# Altium schematic symbol library conn_header_1.27mm_st_smd.SchLib: 118 symbols
Pins are listed as number, name and electrical type; pins without a type are passive.

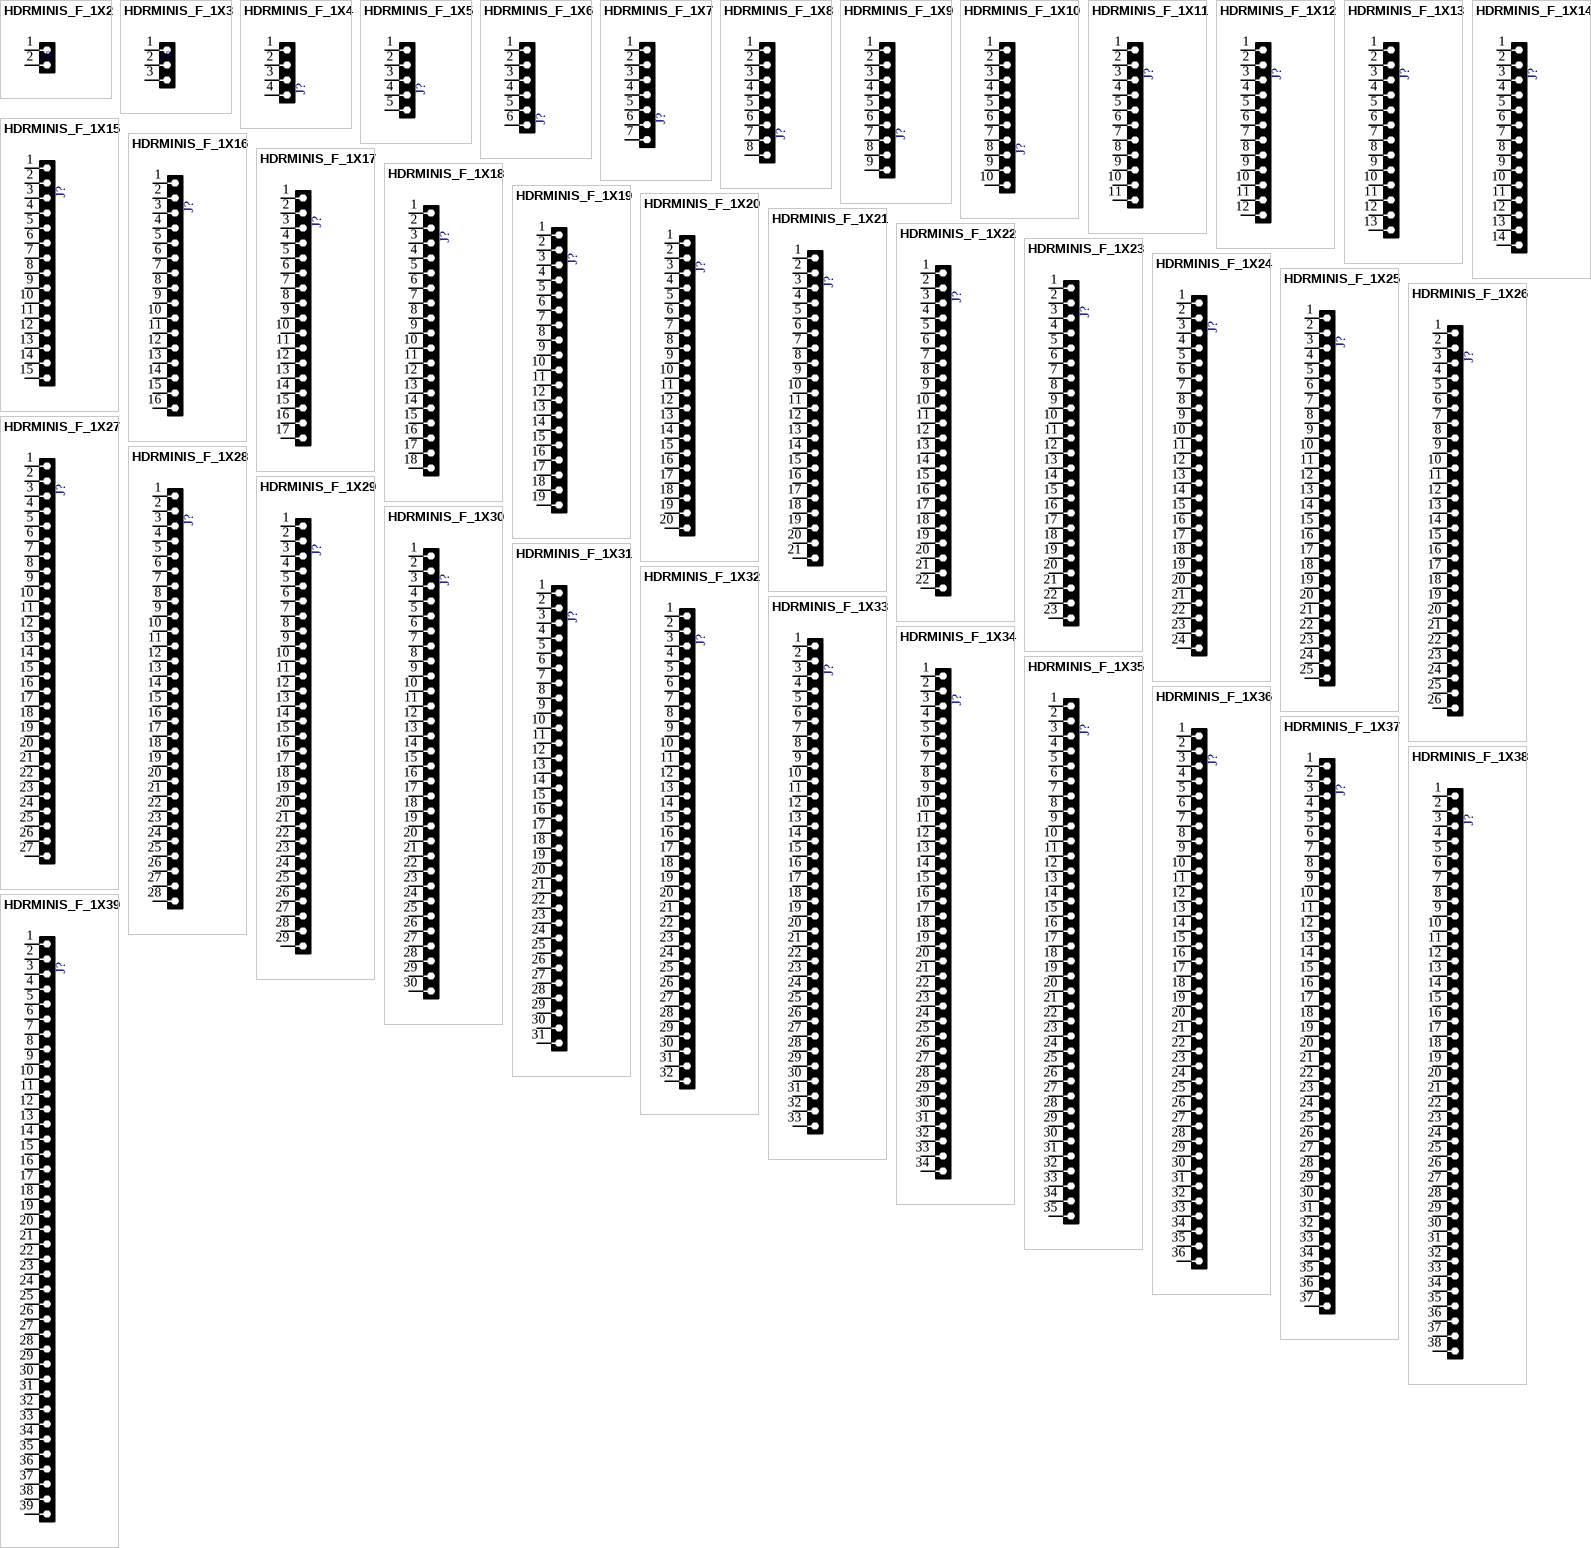
[diagram p0: symbols HDRMINIS_F_1X2 to HDRMINIS_F_1X39]

## HDRMINIS_F_1X2
designator J?, comment HDRMINI_2  (value not drawn)
CONN, HEADER, Female, pitch: 1.27mm, 2POS; VALUE: HDRMINI_2
footprint HDRMINIS_F_1X2 (mini header (50mil pitch))
pins: 1, 2

## HDRMINIS_F_1X3
designator J?, comment HDRMINI_3  (value not drawn)
CONN, HEADER, Female, pitch: 1.27mm, 3POS; VALUE: HDRMINI_3
footprint HDRMINIS_F_1X3 (mini header (50mil pitch))
pins: 1, 2, 3

## HDRMINIS_F_1X4
designator J?, comment HDR1X4  (value not drawn)
CONN, HEADER, Female, pitch: 1.27mm, 4POS; VALUE: HDRMINI_4
footprint HDRMINIS_F_1X4 (mini header (50mil pitch))
pins: 1, 2, 3, 4

## HDRMINIS_F_1X5
designator J?, comment HDR1X5  (value not drawn)
CONN, HEADER, Female, pitch: 1.27mm, 5POS; VALUE: HDRMINI_5
footprint HDRMINIS_F_1X5 (mini header (50mil pitch))
pins: 1, 2, 3, 4, 5

## HDRMINIS_F_1X6
designator J?, comment HDR1X6  (value not drawn)
CONN, HEADER, Female, pitch: 1.27mm, 6POS; VALUE: HDRMINI_6
footprint HDRMINIS_F_1X6 (mini header (50mil pitch))
pins: 1, 2, 3, 4, 5, 6

## HDRMINIS_F_1X7
designator J?, comment HDR1X7  (value not drawn)
CONN, HEADER, Female, pitch: 1.27mm, 7POS; VALUE: HDRMINI_7
footprint HDRMINIS_F_1X7 (mini header (50mil pitch))
pins: 1, 2, 3, 4, 5, 6, 7

## HDRMINIS_F_1X8
designator J?, comment HDR1X8  (value not drawn)
CONN, HEADER, Female, pitch: 1.27mm, 8POS; VALUE: HDRMINI_8
footprint HDRMINIS_F_1X8 (mini header (50mil pitch))
pins: 1, 2, 3, 4, 5, 6, 7, 8

## HDRMINIS_F_1X9
designator J?, comment HDR1X9  (value not drawn)
CONN, HEADER, Female, pitch: 1.27mm, 9POS; VALUE: HDRMINI_9
footprint HDRMINIS_F_1X9 (mini header (50mil pitch))
pins: 1, 2, 3, 4, 5, 6, 7, 8, 9

## HDRMINIS_F_1X10
designator J?, comment HDR1X10  (value not drawn)
CONN, HEADER, Female, pitch: 1.27mm; VALUE: HDRMINI_10
footprint HDRMINIS_F_1X10 (mini header (50mil pitch))
pins: 1, 2, 3, 4, 5, 6, 7, 8, 9, 10

## HDRMINIS_F_1X11
designator J?, comment HDR1X10  (value not drawn)
CONN, HEADER, Female, pitch: 1.27mm; VALUE: HDRMINI_10
footprint HDRMINIS_F_1X11 (mini header (50mil pitch))
pins: 1, 2, 3, 4, 5, 6, 7, 8, 9, 10, 11

## HDRMINIS_F_1X12
designator J?, comment HDR1X10  (value not drawn)
CONN, HEADER, Female, pitch: 1.27mm; VALUE: HDRMINI_10
footprint HDRMINIS_F_1X12 (mini header (50mil pitch))
pins: 1, 2, 3, 4, 5, 6, 7, 8, 9, 10, 11, 12

## HDRMINIS_F_1X13
designator J?, comment HDR1X10  (value not drawn)
CONN, HEADER, Female, pitch: 1.27mm; VALUE: HDRMINI_10
footprint HDRMINIS_F_1X13 (mini header (50mil pitch))
pins: 1, 2, 3, 4, 5, 6, 7, 8, 9, 10, 11, 12, 13

## HDRMINIS_F_1X14
designator J?, comment HDR1X10  (value not drawn)
CONN, HEADER, Female, pitch: 1.27mm; VALUE: HDRMINI_10
footprint HDRMINIS_F_1X14 (mini header (50mil pitch))
pins: 1, 2, 3, 4, 5, 6, 7, 8, 9, 10, 11, 12, 13, 14

## HDRMINIS_F_1X15
designator J?, comment HDR1X10  (value not drawn)
CONN, HEADER, Female, pitch: 1.27mm; VALUE: HDRMINI_10
footprint HDRMINIS_F_1X15 (mini header (50mil pitch))
pins: 1, 2, 3, 4, 5, 6, 7, 8, 9, 10, 11, 12, 13, 14, 15

## HDRMINIS_F_1X16
designator J?, comment HDR1X10  (value not drawn)
CONN, HEADER, Female, pitch: 1.27mm; VALUE: HDRMINI_10
footprint HDRMINIS_F_1X16 (mini header (50mil pitch))
pins: 1, 2, 3, 4, 5, 6, 7, 8, 9, 10, 11, 12, 13, 14, 15, 16

## HDRMINIS_F_1X17
designator J?, comment HDR1X10  (value not drawn)
CONN, HEADER, Female, pitch: 1.27mm; VALUE: HDRMINI_10
footprint HDRMINIS_F_1X17 (mini header (50mil pitch))
pins: 1, 2, 3, 4, 5, 6, 7, 8, 9, 10, 11, 12, 13, 14, 15, 16, 17

## HDRMINIS_F_1X18
designator J?, comment HDR1X10  (value not drawn)
CONN, HEADER, Female, pitch: 1.27mm; VALUE: HDRMINI_10
footprint HDRMINIS_F_1X18 (mini header (50mil pitch))
pins: 1, 2, 3, 4, 5, 6, 7, 8, 9, 10, 11, 12, 13, 14, 15, 16, 17, 18

## HDRMINIS_F_1X19
designator J?, comment HDR1X10  (value not drawn)
CONN, HEADER, Female, pitch: 1.27mm; VALUE: HDRMINI_10
footprint HDRMINIS_F_1X19 (mini header (50mil pitch))
pins: 1, 2, 3, 4, 5, 6, 7, 8, 9, 10, 11, 12, 13, 14, 15, 16, 17, 18, 19

## HDRMINIS_F_1X20
designator J?, comment HDR1X10  (value not drawn)
CONN, HEADER, Female, pitch: 1.27mm; VALUE: HDRMINI_10
footprint HDRMINIS_F_1X20 (mini header (50mil pitch))
pins: 1, 2, 3, 4, 5, 6, 7, 8, 9, 10, 11, 12, 13, 14, 15, 16, 17, 18, 19, 20

## HDRMINIS_F_1X21
designator J?, comment HDR1X10  (value not drawn)
CONN, HEADER, Female, pitch: 1.27mm; VALUE: HDRMINI_10
footprint HDRMINIS_F_1X21 (mini header (50mil pitch))
pins: 1, 2, 3, 4, 5, 6, 7, 8, 9, 10, 11, 12, 13, 14, 15, 16, 17, 18, 19, 20, 21

## HDRMINIS_F_1X22
designator J?, comment HDR1X10  (value not drawn)
CONN, HEADER, Female, pitch: 1.27mm; VALUE: HDRMINI_10
footprint HDRMINIS_F_1X22 (mini header (50mil pitch))
pins: 1, 2, 3, 4, 5, 6, 7, 8, 9, 10, 11, 12, 13, 14, 15, 16, 17, 18, 19, 20, 21, 22

## HDRMINIS_F_1X23
designator J?, comment HDR1X10  (value not drawn)
CONN, HEADER, Female, pitch: 1.27mm; VALUE: HDRMINI_10
footprint HDRMINIS_F_1X23 (mini header (50mil pitch))
pins: 1, 2, 3, 4, 5, 6, 7, 8, 9, 10, 11, 12, 13, 14, 15, 16, 17, 18, 19, 20, 21, 22, 23

## HDRMINIS_F_1X24
designator J?, comment HDR1X10  (value not drawn)
CONN, HEADER, Female, pitch: 1.27mm; VALUE: HDRMINI_10
footprint HDRMINIS_F_1X24 (mini header (50mil pitch))
pins: 1, 2, 3, 4, 5, 6, 7, 8, 9, 10, 11, 12, 13, 14, 15, 16, 17, 18, 19, 20, 21, 22, 23, 24

## HDRMINIS_F_1X25
designator J?, comment HDR1X10  (value not drawn)
CONN, HEADER, Female, pitch: 1.27mm; VALUE: HDRMINI_10
footprint HDRMINIS_F_1X25 (mini header (50mil pitch))
pins: 1, 2, 3, 4, 5, 6, 7, 8, 9, 10, 11, 12, 13, 14, 15, 16, 17, 18, 19, 20, 21, 22, 23, 24, 25

## HDRMINIS_F_1X26
designator J?, comment HDR1X10  (value not drawn)
CONN, HEADER, Female, pitch: 1.27mm; VALUE: HDRMINI_10
footprint HDRMINIS_F_1X26 (mini header (50mil pitch))
pins: 1, 2, 3, 4, 5, 6, 7, 8, 9, 10, 11, 12, 13, 14, 15, 16, 17, 18, 19, 20, 21, 22, 23, 24, 25, 26

## HDRMINIS_F_1X27
designator J?, comment HDR1X10  (value not drawn)
CONN, HEADER, Female, pitch: 1.27mm; VALUE: HDRMINI_10
footprint HDRMINIS_F_1X27 (mini header (50mil pitch))
pins: 1, 2, 3, 4, 5, 6, 7, 8, 9, 10, 11, 12, 13, 14, 15, 16, 17, 18, 19, 20, 21, 22, 23, 24, 25, 26, 27

## HDRMINIS_F_1X28
designator J?, comment HDR1X10  (value not drawn)
CONN, HEADER, Female, pitch: 1.27mm; VALUE: HDRMINI_10
footprint HDRMINIS_F_1X28 (mini header (50mil pitch))
pins: 1, 2, 3, 4, 5, 6, 7, 8, 9, 10, 11, 12, 13, 14, 15, 16, 17, 18, 19, 20, 21, 22, 23, 24, 25, 26, 27, 28

## HDRMINIS_F_1X29
designator J?, comment HDR1X10  (value not drawn)
CONN, HEADER, Female, pitch: 1.27mm; VALUE: HDRMINI_10
footprint HDRMINIS_F_1X29 (mini header (50mil pitch))
pins: 1, 2, 3, 4, 5, 6, 7, 8, 9, 10, 11, 12, 13, 14, 15, 16, 17, 18, 19, 20, 21, 22, 23, 24, 25, 26, 27, 28, 29

## HDRMINIS_F_1X30
designator J?, comment HDR1X10  (value not drawn)
CONN, HEADER, Female, pitch: 1.27mm; VALUE: HDRMINI_10
footprint HDRMINIS_F_1X30 (mini header (50mil pitch))
pins: 1, 2, 3, 4, 5, 6, 7, 8, 9, 10, 11, 12, 13, 14, 15, 16, 17, 18, 19, 20, 21, 22, 23, 24, 25, 26, 27, 28, 29, 30

## HDRMINIS_F_1X31
designator J?, comment HDR1X10  (value not drawn)
CONN, HEADER, Female, pitch: 1.27mm; VALUE: HDRMINI_10
footprint HDRMINIS_F_1X31 (mini header (50mil pitch))
pins: 1, 2, 3, 4, 5, 6, 7, 8, 9, 10, 11, 12, 13, 14, 15, 16, 17, 18, 19, 20, 21, 22, 23, 24, 25, 26, 27, 28, 29, 30, 31

## HDRMINIS_F_1X32
designator J?, comment HDR1X10  (value not drawn)
CONN, HEADER, Female, pitch: 1.27mm; VALUE: HDRMINI_10
footprint HDRMINIS_F_1X32 (mini header (50mil pitch))
pins: 1, 2, 3, 4, 5, 6, 7, 8, 9, 10, 11, 12, 13, 14, 15, 16, 17, 18, 19, 20, 21, 22, 23, 24, 25, 26, 27, 28, 29, 30, 31, 32

## HDRMINIS_F_1X33
designator J?, comment HDR1X10  (value not drawn)
CONN, HEADER, Female, pitch: 1.27mm; VALUE: HDRMINI_10
footprint HDRMINIS_F_1X33 (mini header (50mil pitch))
pins: 1, 2, 3, 4, 5, 6, 7, 8, 9, 10, 11, 12, 13, 14, 15, 16, 17, 18, 19, 20, 21, 22, 23, 24, 25, 26, 27, 28, 29, 30, 31, 32, 33

## HDRMINIS_F_1X34
designator J?, comment HDR1X10  (value not drawn)
CONN, HEADER, Female, pitch: 1.27mm; VALUE: HDRMINI_10
footprint HDRMINIS_F_1X34 (mini header (50mil pitch))
pins: 1, 2, 3, 4, 5, 6, 7, 8, 9, 10, 11, 12, 13, 14, 15, 16, 17, 18, 19, 20, 21, 22, 23, 24, 25, 26, 27, 28, 29, 30, 31, 32, 33, 34

## HDRMINIS_F_1X35
designator J?, comment HDR1X10  (value not drawn)
CONN, HEADER, Female, pitch: 1.27mm; VALUE: HDRMINI_10
footprint HDRMINIS_F_1X35 (mini header (50mil pitch))
pins: 1, 2, 3, 4, 5, 6, 7, 8, 9, 10, 11, 12, 13, 14, 15, 16, 17, 18, 19, 20, 21, 22, 23, 24, 25, 26, 27, 28, 29, 30, 31, 32, 33, 34, 35

## HDRMINIS_F_1X36
designator J?, comment HDR1X10  (value not drawn)
CONN, HEADER, Female, pitch: 1.27mm; VALUE: HDRMINI_10
footprint HDRMINIS_F_1X36 (mini header (50mil pitch))
pins: 1, 2, 3, 4, 5, 6, 7, 8, 9, 10, 11, 12, 13, 14, 15, 16, 17, 18, 19, 20, 21, 22, 23, 24, 25, 26, 27, 28, 29, 30, 31, 32, 33, 34, 35, 36

## HDRMINIS_F_1X37
designator J?, comment HDR1X10  (value not drawn)
CONN, HEADER, Female, pitch: 1.27mm; VALUE: HDRMINI_10
footprint HDRMINIS_F_1X37 (mini header (50mil pitch))
pins: 1, 2, 3, 4, 5, 6, 7, 8, 9, 10, 11, 12, 13, 14, 15, 16, 17, 18, 19, 20, 21, 22, 23, 24, 25, 26, 27, 28, 29, 30, 31, 32, 33, 34, 35, 36, 37

## HDRMINIS_F_1X38
designator J?, comment HDR1X10  (value not drawn)
CONN, HEADER, Female, pitch: 1.27mm; VALUE: HDRMINI_10
footprint HDRMINIS_F_1X38 (mini header (50mil pitch))
pins: 1, 2, 3, 4, 5, 6, 7, 8, 9, 10, 11, 12, 13, 14, 15, 16, 17, 18, 19, 20, 21, 22, 23, 24, 25, 26, 27, 28, 29, 30, 31, 32, 33, 34, 35, 36, 37, 38

## HDRMINIS_F_1X39
designator J?, comment HDR1X10  (value not drawn)
CONN, HEADER, Female, pitch: 1.27mm; VALUE: HDRMINI_10
footprint HDRMINIS_F_1X39 (mini header (50mil pitch))
pins: 1, 2, 3, 4, 5, 6, 7, 8, 9, 10, 11, 12, 13, 14, 15, 16, 17, 18, 19, 20, 21, 22, 23, 24, 25, 26, 27, 28, 29, 30, 31, 32, 33, 34, 35, 36, 37, 38, 39

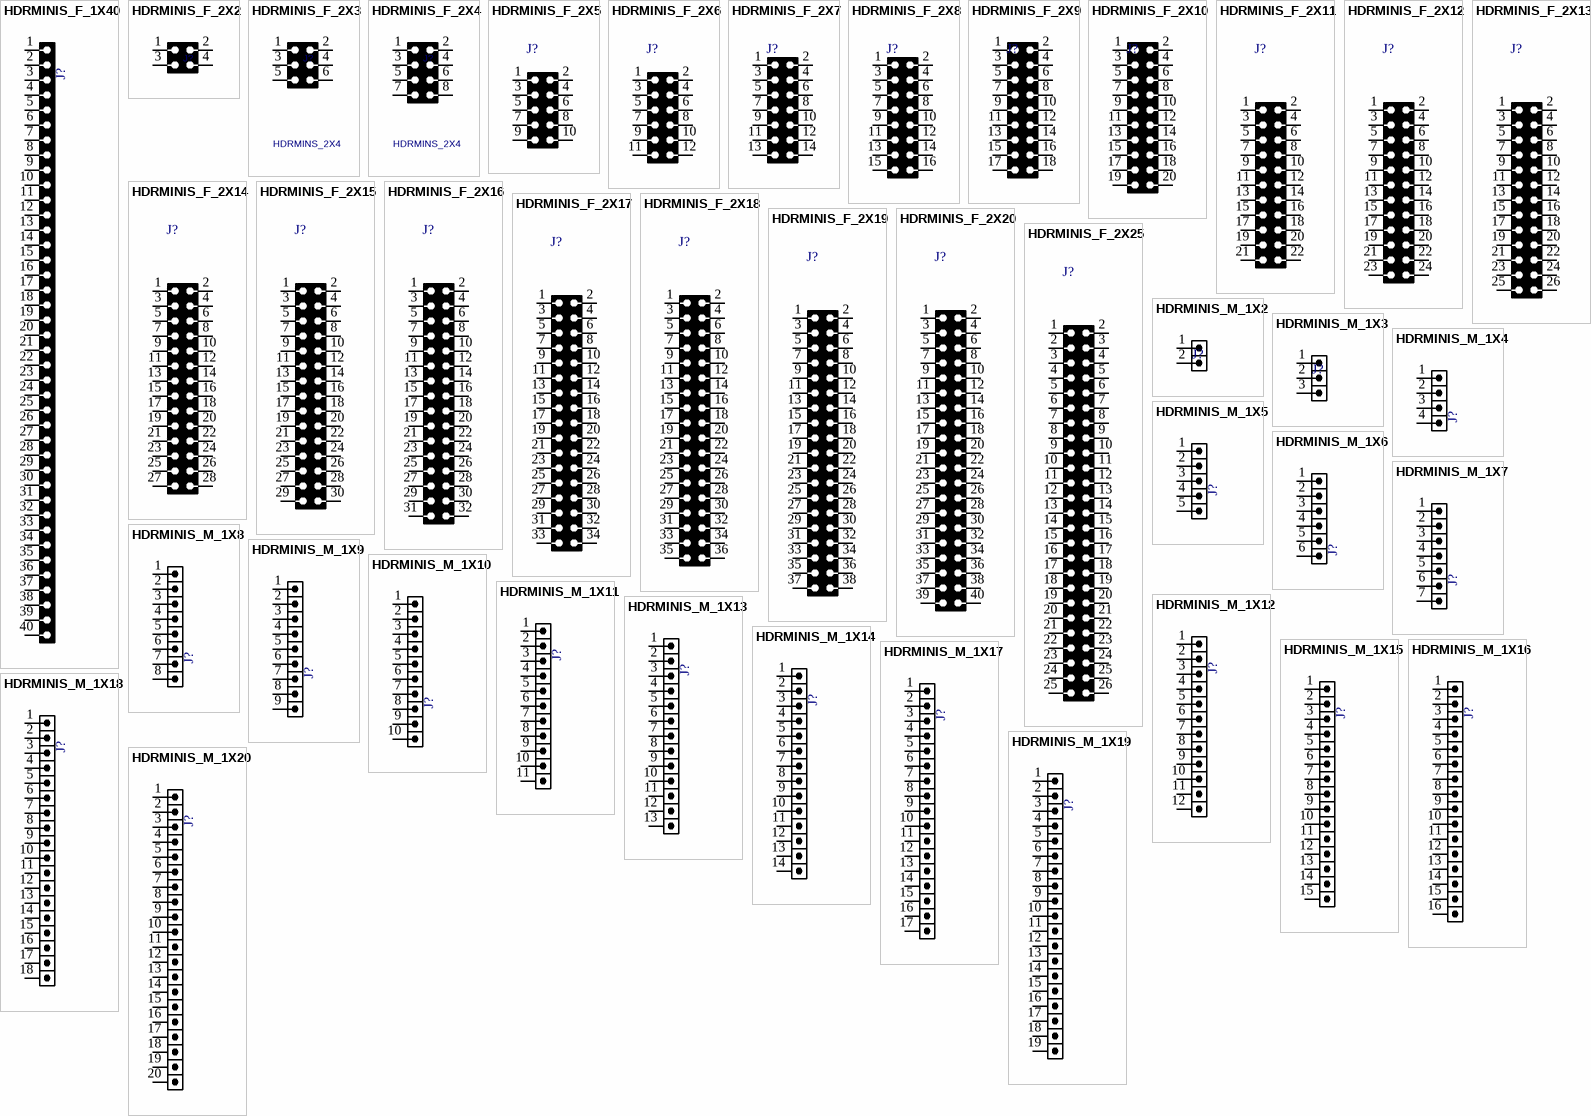
[diagram p1: symbols HDRMINIS_F_1X40 to HDRMINIS_M_1X20]

## HDRMINIS_F_1X40
designator J?, comment HDR1X10  (value not drawn)
CONN, HEADER, Male, pitch: 1.27mm; VALUE: HDRMINI_10
footprint HDRMINIS_F_1X40 (mini header (50mil pitch))
pins: 1, 2, 3, 4, 5, 6, 7, 8, 9, 10, 11, 12, 13, 14, 15, 16, 17, 18, 19, 20, 21, 22, 23, 24, 25, 26, 27, 28, 29, 30, 31, 32, 33, 34, 35, 36, 37, 38, 39, 40

## HDRMINIS_F_2X2
designator J?, comment HDRMINS_2X2  (value not drawn)
CONN, HEADER, Female, pitch: 1.27mm, 4POS, SMD; MANF_P#: MANF_PART#; MANF: MANF; VALUE: HDRMINS_2X2
footprint HDRMINIS_F_2X2 (HEADER FEMALE, SMT, 4, 1.27mm)
pins: 1, 2, 3, 4

## HDRMINIS_F_2X3
designator J?, comment HDRMINS_2X4
CONN, HEADER, Female, pitch: 1.27mm,; MANF_P#: MANF_PART#; MANF: MANF; VALUE: HDRMINS_2X4
footprint HDRMINIS_F_2X3 (HEADER FEMALE, SMT, 8, 1.27mm)
pins: 1, 2, 3, 4, 5, 6

## HDRMINIS_F_2X4
designator J?, comment HDRMINS_2X4
CONN, HEADER, Female, pitch: 1.27mm, 8POS, SMD; MANF_P#: MANF_PART#; MANF: MANF; VALUE: HDRMINS_2X4
footprint HDRMINIS_F_2X4 (HEADER FEMALE, SMT, 8, 1.27mm)
pins: 1, 2, 3, 4, 5, 6, 7, 8

## HDRMINIS_F_2X5
designator J?, comment HDRMINS_2X6  (value not drawn)
CONN, HEADER, Female, pitch: 1.27mm,; VALUE: HDRMINS_2X6
footprint HDRMINIS_F_2X5 (HEADER FEMALE, SMT, 12, 1.27mm)
pins: 1, 2, 3, 4, 5, 6, 7, 8, 9, 10

## HDRMINIS_F_2X6
designator J?, comment HDRMINS_2X6  (value not drawn)
CONN, HEADER, Female, pitch: 1.27mm, 12POS, SMD; VALUE: HDRMINS_2X6
footprint HDRMINIS_F_2X6 (HEADER FEMALE, SMT, 12, 1.27mm)
pins: 1, 2, 3, 4, 5, 6, 7, 8, 9, 10, 11, 12

## HDRMINIS_F_2X7
designator J?, comment HDRMINS_2X8  (value not drawn)
CONN, HEADER, Female, pitch: 1.27mm,; VALUE: HDRMINS_2X8
footprint HDRMINIS_F_2X7 (HEADER FEMALE, SMT, 16, 1.27mm)
pins: 1, 2, 3, 4, 5, 6, 7, 8, 9, 10, 11, 12, 13, 14

## HDRMINIS_F_2X8
designator J?, comment HDRMINS_2X8  (value not drawn)
CONN, HEADER, Female, pitch: 1.27mm, 16POS, SMD; VALUE: HDRMINS_2X8
footprint HDRMINIS_F_2X8 (HEADER FEMALE, SMT, 16, 1.27mm)
pins: 1, 2, 3, 4, 5, 6, 7, 8, 9, 10, 11, 12, 13, 14, 15, 16

## HDRMINIS_F_2X9
designator J?, comment HDRMINS_2X10  (value not drawn)
CONN, HEADER, Female, pitch: 1.27mm,; VALUE: HDRMINS_2X10
footprint HDRMINIS_F_2X9 (HEADER FEMALE, SMT, 20, 1.27mm)
pins: 1, 2, 3, 4, 5, 6, 7, 8, 9, 10, 11, 12, 13, 14, 15, 16, 17, 18

## HDRMINIS_F_2X10
designator J?, comment HDRMINS_2X10  (value not drawn)
CONN, HEADER, Female, pitch: 1.27mm, 20POS, SMD; VALUE: HDRMINS_2X10
footprint HDRMINIS_F_2X10 (HEADER FEMALE, SMT, 20, 1.27mm)
pins: 1, 2, 3, 4, 5, 6, 7, 8, 9, 10, 11, 12, 13, 14, 15, 16, 17, 18, 19, 20

## HDRMINIS_F_2X11
designator J?, comment HDRMINI_2X10  (value not drawn)
CONN, HEADER, Female, pitch: 1.27mm,; VALUE: HDRMINI_2X10
footprint HDRMINIS_F_2X11 (HEADER FEMALE, SMT, 20, 1.27mm)
pins: 1, 2, 3, 4, 5, 6, 7, 8, 9, 10, 11, 12, 13, 14, 15, 16, 17, 18, 19, 20, 21, 22

## HDRMINIS_F_2X12
designator J?, comment HDRMINI_2X10  (value not drawn)
CONN, HEADER, Female, pitch: 1.27mm,; VALUE: HDRMINI_2X10
footprint HDRMINIS_F_2X12 (HEADER FEMALE, SMT, 1.27mm)
pins: 1, 2, 3, 4, 5, 6, 7, 8, 9, 10, 11, 12, 13, 14, 15, 16, 17, 18, 19, 20, 21, 22, 23, 24

## HDRMINIS_F_2X13
designator J?, comment HDRMINI_2X10  (value not drawn)
CONN, HEADER, Female, pitch: 1.27mm,; VALUE: HDRMINI_2X10
footprint HDRMINIS_F_2X13 (HEADER FEMALE, SMT, 1.27mm)
pins: 1, 2, 3, 4, 5, 6, 7, 8, 9, 10, 11, 12, 13, 14, 15, 16, 17, 18, 19, 20, 21, 22, 23, 24, 25, 26

## HDRMINIS_F_2X14
designator J?, comment HDRMINI_2X10  (value not drawn)
CONN, HEADER, Female, pitch: 1.27mm,; VALUE: HDRMINI_2X10
footprint HDRMINIS_F_2X14 (HEADER FEMALE, SMT, 1.27mm)
pins: 1, 2, 3, 4, 5, 6, 7, 8, 9, 10, 11, 12, 13, 14, 15, 16, 17, 18, 19, 20, 21, 22, 23, 24, 25, 26, 27, 28

## HDRMINIS_F_2X15
designator J?, comment HDRMINI_2X10  (value not drawn)
CONN, HEADER, Female, pitch: 1.27mm,; VALUE: HDRMINI_2X10
footprint HDRMINIS_F_2X15 (HEADER FEMALE, SMT, 1.27mm)
pins: 1, 2, 3, 4, 5, 6, 7, 8, 9, 10, 11, 12, 13, 14, 15, 16, 17, 18, 19, 20, 21, 22, 23, 24, 25, 26, 27, 28, 29, 30

## HDRMINIS_F_2X16
designator J?, comment HDRMINI_2X10  (value not drawn)
CONN, HEADER, Female, pitch: 1.27mm,; VALUE: HDRMINI_2X10
footprint HDRMINIS_F_2X16 (HEADER FEMALE, SMT, 1.27mm)
pins: 1, 2, 3, 4, 5, 6, 7, 8, 9, 10, 11, 12, 13, 14, 15, 16, 17, 18, 19, 20, 21, 22, 23, 24, 25, 26, 27, 28, 29, 30, 31, 32

## HDRMINIS_F_2X17
designator J?, comment HDRMINI_2X10  (value not drawn)
CONN, HEADER, Female, pitch: 1.27mm,; VALUE: HDRMINI_2X10
footprint HDRMINIS_F_2X17 (HEADER FEMALE, SMT, 1.27mm)
pins: 1, 2, 3, 4, 5, 6, 7, 8, 9, 10, 11, 12, 13, 14, 15, 16, 17, 18, 19, 20, 21, 22, 23, 24, 25, 26, 27, 28, 29, 30, 31, 32, 33, 34

## HDRMINIS_F_2X18
designator J?, comment HDRMINI_2X10  (value not drawn)
CONN, HEADER, Female, pitch: 1.27mm,; VALUE: HDRMINI_2X10
footprint HDRMINIS_F_2X18 (HEADER FEMALE, SMT, 1.27mm)
pins: 1, 2, 3, 4, 5, 6, 7, 8, 9, 10, 11, 12, 13, 14, 15, 16, 17, 18, 19, 20, 21, 22, 23, 24, 25, 26, 27, 28, 29, 30, 31, 32, 33, 34, 35, 36

## HDRMINIS_F_2X19
designator J?, comment HDRMINI_2X10  (value not drawn)
CONN, HEADER, Female, pitch: 1.27mm,; VALUE: HDRMINI_2X10
footprint HDRMINIS_F_2X19 (HEADER FEMALE, SMT, 1.27mm)
pins: 1, 2, 3, 4, 5, 6, 7, 8, 9, 10, 11, 12, 13, 14, 15, 16, 17, 18, 19, 20, 21, 22, 23, 24, 25, 26, 27, 28, 29, 30, 31, 32, 33, 34, 35, 36, 37, 38

## HDRMINIS_F_2X20
designator J?, comment HDRMINI_2X10  (value not drawn)
CONN, HEADER, Female, pitch: 1.27mm,; VALUE: HDRMINI_2X10
footprint HDRMINIS_F_2X20 (HEADER FEMALE, SMT, 1.27mm)
pins: 1, 2, 3, 4, 5, 6, 7, 8, 9, 10, 11, 12, 13, 14, 15, 16, 17, 18, 19, 20, 21, 22, 23, 24, 25, 26, 27, 28, 29, 30, 31, 32, 33, 34, 35, 36, 37, 38, 39, 40

## HDRMINIS_F_2X25
designator J?, comment HDRMINS_2X10  (value not drawn)
CONN, HEADER, Female, pitch: 1.27mm,; VALUE: HDRMINS_2X10
footprint HDRMINIS_F_2X25 (HEADER FEMALE, SMT, 1.27mm)
pins: 1, 2, 2, 3, 3, 4, 4, 5, 5, 6, 6, 7, 7, 8, 8, 9, 9, 10, 10, 11, 11, 12, 12, 13, 13, 14, 14, 15, 15, 16, 16, 17, 17, 18, 18, 19, 19, 20, 20, 21, 21, 22, 22, 23, 23, 24, 24, 25, 25, 26

## HDRMINIS_M_1X2
designator J?, comment HDRMINI_2  (value not drawn)
CONN, HEADER, Male, pitch: 1.27mm, 2POS; VALUE: HDRMINI_2
footprint HDRMINIS_M_1X2 (mini header (50mil pitch))
pins: 1, 2

## HDRMINIS_M_1X3
designator J?, comment HDRMINI_3  (value not drawn)
CONN, HEADER, Male, pitch: 1.27mm, 3POS; VALUE: HDRMINI_3
footprint HDRMINIS_M_1X3 (mini header (50mil pitch))
pins: 1, 2, 3

## HDRMINIS_M_1X4
designator J?, comment HDR1X4  (value not drawn)
CONN, HEADER, Male, pitch: 1.27mm, 4POS; VALUE: HDRMINI_4
footprint HDRMINIS_M_1X4 (mini header (50mil pitch))
pins: 1, 2, 3, 4

## HDRMINIS_M_1X5
designator J?, comment HDR1X5  (value not drawn)
CONN, HEADER, Male, pitch: 1.27mm, 5POS; VALUE: HDRMINI_5
footprint HDRMINIS_M_1X5 (mini header (50mil pitch))
pins: 1, 2, 3, 4, 5

## HDRMINIS_M_1X6
designator J?, comment HDR1X6  (value not drawn)
CONN, HEADER, Male, pitch: 1.27mm, 6POS; VALUE: HDRMINI_6
footprint HDRMINIS_M_1X6 (mini header (50mil pitch))
pins: 1, 2, 3, 4, 5, 6

## HDRMINIS_M_1X7
designator J?, comment HDR1X7  (value not drawn)
CONN, HEADER, Male, pitch: 1.27mm, 7POS; VALUE: HDRMINI_7
footprint HDRMINIS_M_1X7 (mini header (50mil pitch))
pins: 1, 2, 3, 4, 5, 6, 7

## HDRMINIS_M_1X8
designator J?, comment HDR1X8  (value not drawn)
CONN, HEADER, Male, pitch: 1.27mm, 8POS; VALUE: HDRMINI_8
footprint HDRMINIS_M_1X8 (mini header (50mil pitch))
pins: 1, 2, 3, 4, 5, 6, 7, 8

## HDRMINIS_M_1X9
designator J?, comment HDR1X9  (value not drawn)
CONN, HEADER, Male, pitch: 1.27mm, 9POS; VALUE: HDRMINI_9
footprint HDRMINIS_M_1X9 (mini header (50mil pitch))
pins: 1, 2, 3, 4, 5, 6, 7, 8, 9

## HDRMINIS_M_1X10
designator J?, comment HDR1X10  (value not drawn)
CONN, HEADER, Male, pitch: 1.27mm; VALUE: HDRMINI_10
footprint HDRMINIS_M_1X10 (mini header (50mil pitch))
pins: 1, 2, 3, 4, 5, 6, 7, 8, 9, 10

## HDRMINIS_M_1X11
designator J?, comment HDR1X10  (value not drawn)
CONN, HEADER, Male, pitch: 1.27mm; VALUE: HDRMINI_10
footprint HDRMINIS_M_1X11 (mini header (50mil pitch))
pins: 1, 2, 3, 4, 5, 6, 7, 8, 9, 10, 11

## HDRMINIS_M_1X12
designator J?, comment HDR1X10  (value not drawn)
CONN, HEADER, Male, pitch: 1.27mm; VALUE: HDRMINI_10
footprint HDRMINIS_M_1X12 (mini header (50mil pitch))
pins: 1, 2, 3, 4, 5, 6, 7, 8, 9, 10, 11, 12

## HDRMINIS_M_1X13
designator J?, comment HDR1X10  (value not drawn)
CONN, HEADER, Male, pitch: 1.27mm; VALUE: HDRMINI_10
footprint HDRMINIS_M_1X13 (mini header (50mil pitch))
pins: 1, 2, 3, 4, 5, 6, 7, 8, 9, 10, 11, 12, 13

## HDRMINIS_M_1X14
designator J?, comment HDR1X10  (value not drawn)
CONN, HEADER, Male, pitch: 1.27mm; VALUE: HDRMINI_10
footprint HDRMINIS_M_1X14 (mini header (50mil pitch))
pins: 1, 2, 3, 4, 5, 6, 7, 8, 9, 10, 11, 12, 13, 14

## HDRMINIS_M_1X15
designator J?, comment HDR1X10  (value not drawn)
CONN, HEADER, Male, pitch: 1.27mm; VALUE: HDRMINI_10
footprint HDRMINIS_M_1X15 (mini header (50mil pitch))
pins: 1, 2, 3, 4, 5, 6, 7, 8, 9, 10, 11, 12, 13, 14, 15

## HDRMINIS_M_1X16
designator J?, comment HDR1X10  (value not drawn)
CONN, HEADER, Male, pitch: 1.27mm; VALUE: HDRMINI_10
footprint HDRMINIS_M_1X16 (mini header (50mil pitch))
pins: 1, 2, 3, 4, 5, 6, 7, 8, 9, 10, 11, 12, 13, 14, 15, 16

## HDRMINIS_M_1X17
designator J?, comment HDR1X10  (value not drawn)
CONN, HEADER, Male, pitch: 1.27mm; VALUE: HDRMINI_10
footprint HDRMINIS_M_1X17 (mini header (50mil pitch))
pins: 1, 2, 3, 4, 5, 6, 7, 8, 9, 10, 11, 12, 13, 14, 15, 16, 17

## HDRMINIS_M_1X18
designator J?, comment HDR1X10  (value not drawn)
CONN, HEADER, Male, pitch: 1.27mm; VALUE: HDRMINI_10
footprint HDRMINIS_M_1X18 (mini header (50mil pitch))
pins: 1, 2, 3, 4, 5, 6, 7, 8, 9, 10, 11, 12, 13, 14, 15, 16, 17, 18

## HDRMINIS_M_1X19
designator J?, comment HDR1X10  (value not drawn)
CONN, HEADER, Male, pitch: 1.27mm; VALUE: HDRMINI_10
footprint HDRMINIS_M_1X19 (mini header (50mil pitch))
pins: 1, 2, 3, 4, 5, 6, 7, 8, 9, 10, 11, 12, 13, 14, 15, 16, 17, 18, 19

## HDRMINIS_M_1X20
designator J?, comment HDR1X10  (value not drawn)
CONN, HEADER, Male, pitch: 1.27mm; VALUE: HDRMINI_10
footprint HDRMINIS_M_1X20 (mini header (50mil pitch))
pins: 1, 2, 3, 4, 5, 6, 7, 8, 9, 10, 11, 12, 13, 14, 15, 16, 17, 18, 19, 20

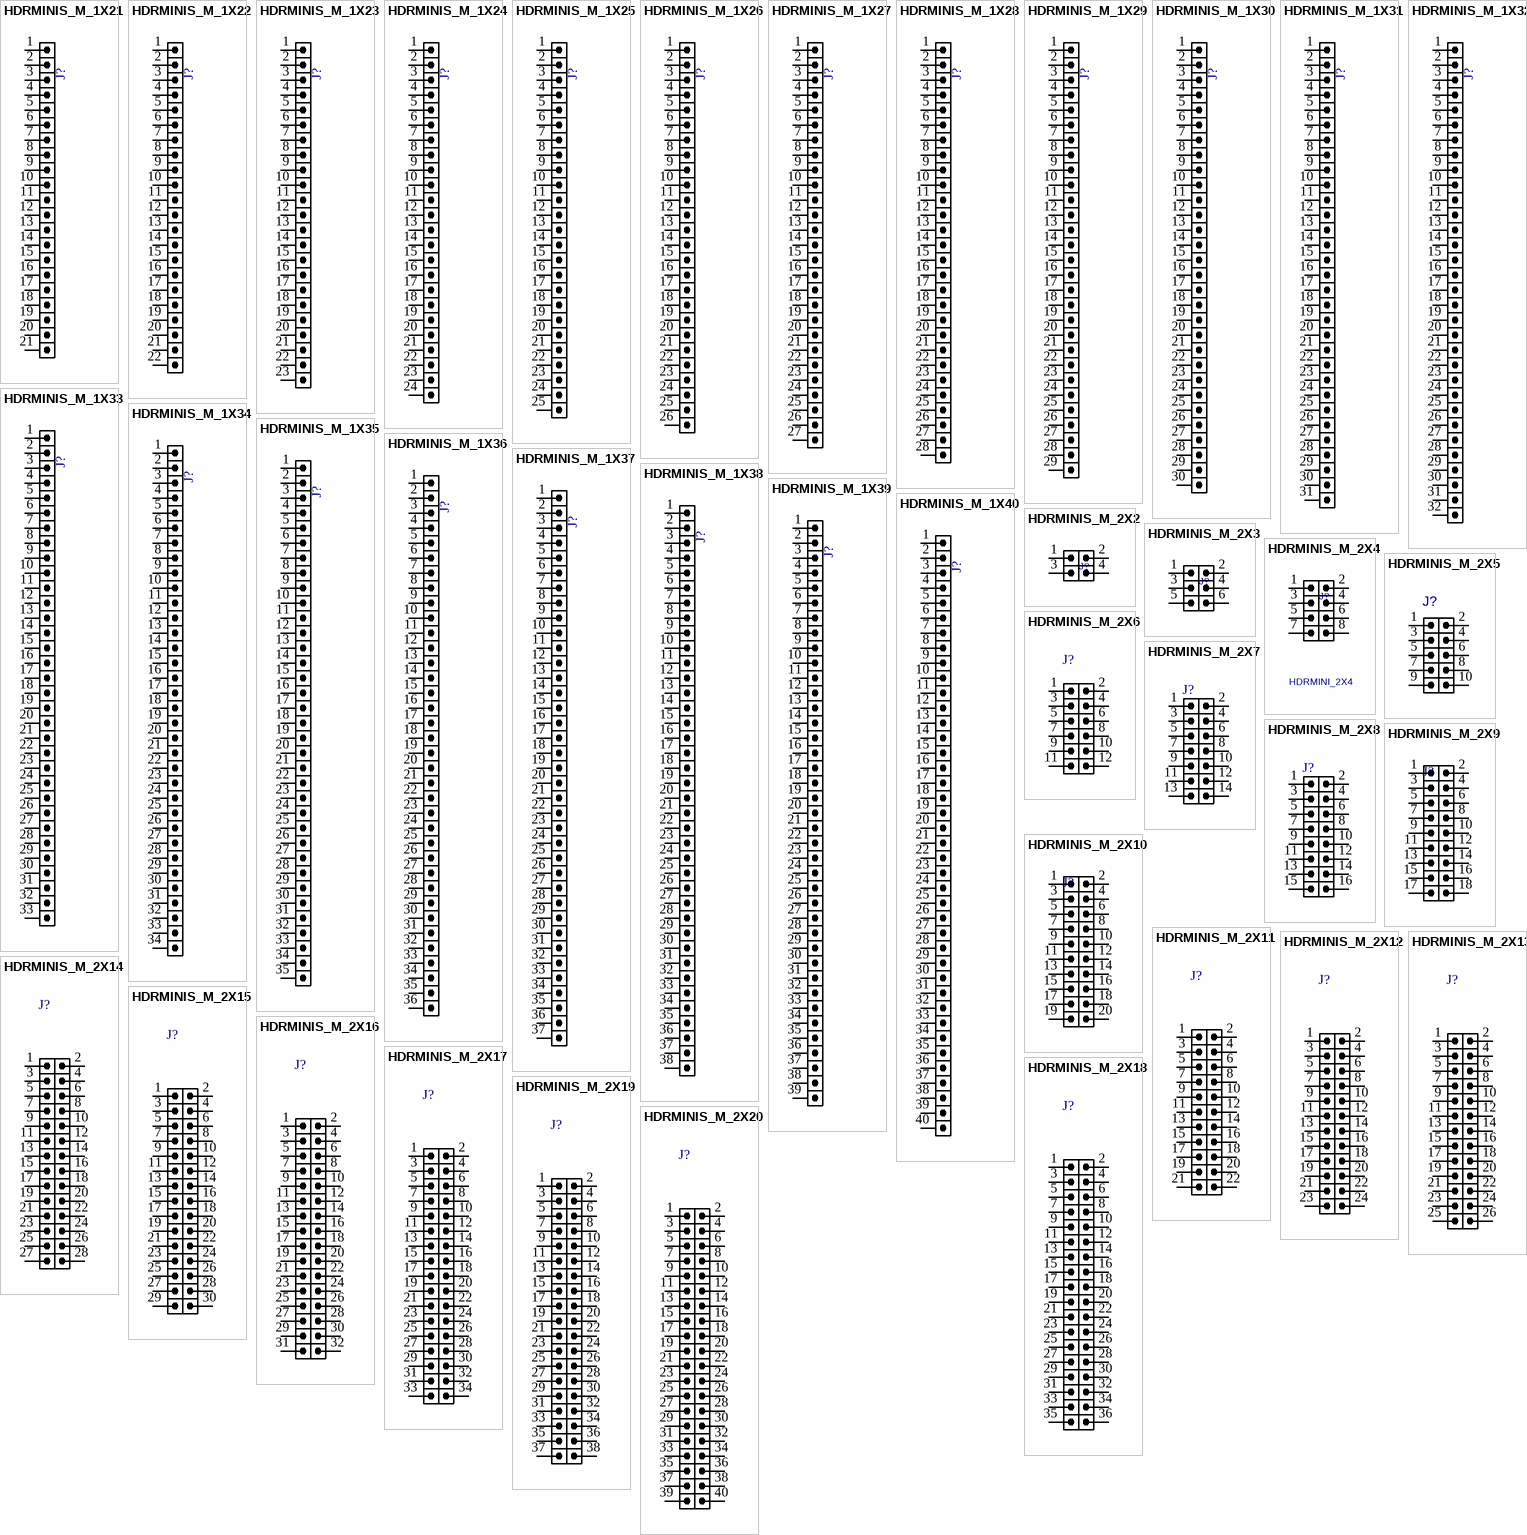
[diagram p2: symbols HDRMINIS_M_1X21 to HDRMINIS_M_2X20]

## HDRMINIS_M_1X21
designator J?, comment HDR1X10  (value not drawn)
CONN, HEADER, Male, pitch: 1.27mm; VALUE: HDRMINI_10
footprint HDRMINIS_M_1X21 (mini header (50mil pitch))
pins: 1, 2, 3, 4, 5, 6, 7, 8, 9, 10, 11, 12, 13, 14, 15, 16, 17, 18, 19, 20, 21

## HDRMINIS_M_1X22
designator J?, comment HDR1X10  (value not drawn)
CONN, HEADER, Male, pitch: 1.27mm; VALUE: HDRMINI_10
footprint HDRMINIS_M_1X22 (mini header (50mil pitch))
pins: 1, 2, 3, 4, 5, 6, 7, 8, 9, 10, 11, 12, 13, 14, 15, 16, 17, 18, 19, 20, 21, 22

## HDRMINIS_M_1X23
designator J?, comment HDR1X10  (value not drawn)
CONN, HEADER, Male, pitch: 1.27mm; VALUE: HDRMINI_10
footprint HDRMINIS_M_1X23 (mini header (50mil pitch))
pins: 1, 2, 3, 4, 5, 6, 7, 8, 9, 10, 11, 12, 13, 14, 15, 16, 17, 18, 19, 20, 21, 22, 23

## HDRMINIS_M_1X24
designator J?, comment HDR1X10  (value not drawn)
CONN, HEADER, Male, pitch: 1.27mm; VALUE: HDRMINI_10
footprint HDRMINIS_M_1X24 (mini header (50mil pitch))
pins: 1, 2, 3, 4, 5, 6, 7, 8, 9, 10, 11, 12, 13, 14, 15, 16, 17, 18, 19, 20, 21, 22, 23, 24

## HDRMINIS_M_1X25
designator J?, comment HDR1X10  (value not drawn)
CONN, HEADER, Male, pitch: 1.27mm; VALUE: HDRMINI_10
footprint HDRMINIS_M_1X25 (mini header (50mil pitch))
pins: 1, 2, 3, 4, 5, 6, 7, 8, 9, 10, 11, 12, 13, 14, 15, 16, 17, 18, 19, 20, 21, 22, 23, 24, 25

## HDRMINIS_M_1X26
designator J?, comment HDR1X10  (value not drawn)
CONN, HEADER, Male, pitch: 1.27mm; VALUE: HDRMINI_10
footprint HDRMINIS_M_1X26 (mini header (50mil pitch))
pins: 1, 2, 3, 4, 5, 6, 7, 8, 9, 10, 11, 12, 13, 14, 15, 16, 17, 18, 19, 20, 21, 22, 23, 24, 25, 26

## HDRMINIS_M_1X27
designator J?, comment HDR1X10  (value not drawn)
CONN, HEADER, Male, pitch: 1.27mm; VALUE: HDRMINI_10
footprint HDRMINIS_M_1X27 (mini header (50mil pitch))
pins: 1, 2, 3, 4, 5, 6, 7, 8, 9, 10, 11, 12, 13, 14, 15, 16, 17, 18, 19, 20, 21, 22, 23, 24, 25, 26, 27

## HDRMINIS_M_1X28
designator J?, comment HDR1X10  (value not drawn)
CONN, HEADER, Male, pitch: 1.27mm; VALUE: HDRMINI_10
footprint HDRMINIS_M_1X28 (mini header (50mil pitch))
pins: 1, 2, 3, 4, 5, 6, 7, 8, 9, 10, 11, 12, 13, 14, 15, 16, 17, 18, 19, 20, 21, 22, 23, 24, 25, 26, 27, 28

## HDRMINIS_M_1X29
designator J?, comment HDR1X10  (value not drawn)
CONN, HEADER, Male, pitch: 1.27mm; VALUE: HDRMINI_10
footprint HDRMINIS_M_1X29 (mini header (50mil pitch))
pins: 1, 2, 3, 4, 5, 6, 7, 8, 9, 10, 11, 12, 13, 14, 15, 16, 17, 18, 19, 20, 21, 22, 23, 24, 25, 26, 27, 28, 29

## HDRMINIS_M_1X30
designator J?, comment HDR1X10  (value not drawn)
CONN, HEADER, Male, pitch: 1.27mm; VALUE: HDRMINI_10
footprint HDRMINIS_M_1X30 (mini header (50mil pitch))
pins: 1, 2, 3, 4, 5, 6, 7, 8, 9, 10, 11, 12, 13, 14, 15, 16, 17, 18, 19, 20, 21, 22, 23, 24, 25, 26, 27, 28, 29, 30

## HDRMINIS_M_1X31
designator J?, comment HDR1X10  (value not drawn)
CONN, HEADER, Male, pitch: 1.27mm; VALUE: HDRMINI_10
footprint HDRMINIS_M_1X31 (mini header (50mil pitch))
pins: 1, 2, 3, 4, 5, 6, 7, 8, 9, 10, 11, 12, 13, 14, 15, 16, 17, 18, 19, 20, 21, 22, 23, 24, 25, 26, 27, 28, 29, 30, 31

## HDRMINIS_M_1X32
designator J?, comment HDR1X10  (value not drawn)
CONN, HEADER, Male, pitch: 1.27mm; VALUE: HDRMINI_10
footprint HDRMINIS_M_1X32 (mini header (50mil pitch))
pins: 1, 2, 3, 4, 5, 6, 7, 8, 9, 10, 11, 12, 13, 14, 15, 16, 17, 18, 19, 20, 21, 22, 23, 24, 25, 26, 27, 28, 29, 30, 31, 32

## HDRMINIS_M_1X33
designator J?, comment HDR1X10  (value not drawn)
CONN, HEADER, Male, pitch: 1.27mm; VALUE: HDRMINI_10
footprint HDRMINIS_M_1X33 (mini header (50mil pitch))
pins: 1, 2, 3, 4, 5, 6, 7, 8, 9, 10, 11, 12, 13, 14, 15, 16, 17, 18, 19, 20, 21, 22, 23, 24, 25, 26, 27, 28, 29, 30, 31, 32, 33

## HDRMINIS_M_1X34
designator J?, comment HDR1X10  (value not drawn)
CONN, HEADER, Male, pitch: 1.27mm; VALUE: HDRMINI_10
footprint HDRMINIS_M_1X34 (mini header (50mil pitch))
pins: 1, 2, 3, 4, 5, 6, 7, 8, 9, 10, 11, 12, 13, 14, 15, 16, 17, 18, 19, 20, 21, 22, 23, 24, 25, 26, 27, 28, 29, 30, 31, 32, 33, 34

## HDRMINIS_M_1X35
designator J?, comment HDR1X10  (value not drawn)
CONN, HEADER, Male, pitch: 1.27mm; VALUE: HDRMINI_10
footprint HDRMINIS_M_1X35 (mini header (50mil pitch))
pins: 1, 2, 3, 4, 5, 6, 7, 8, 9, 10, 11, 12, 13, 14, 15, 16, 17, 18, 19, 20, 21, 22, 23, 24, 25, 26, 27, 28, 29, 30, 31, 32, 33, 34, 35

## HDRMINIS_M_1X36
designator J?, comment HDR1X10  (value not drawn)
CONN, HEADER, Male, pitch: 1.27mm; VALUE: HDRMINI_10
footprint HDRMINIS_M_1X36 (mini header (50mil pitch))
pins: 1, 2, 3, 4, 5, 6, 7, 8, 9, 10, 11, 12, 13, 14, 15, 16, 17, 18, 19, 20, 21, 22, 23, 24, 25, 26, 27, 28, 29, 30, 31, 32, 33, 34, 35, 36

## HDRMINIS_M_1X37
designator J?, comment HDR1X10  (value not drawn)
CONN, HEADER, Male, pitch: 1.27mm; VALUE: HDRMINI_10
footprint HDRMINIS_M_1X37 (mini header (50mil pitch))
pins: 1, 2, 3, 4, 5, 6, 7, 8, 9, 10, 11, 12, 13, 14, 15, 16, 17, 18, 19, 20, 21, 22, 23, 24, 25, 26, 27, 28, 29, 30, 31, 32, 33, 34, 35, 36, 37

## HDRMINIS_M_1X38
designator J?, comment HDR1X10  (value not drawn)
CONN, HEADER, Male, pitch: 1.27mm; VALUE: HDRMINI_10
footprint HDRMINIS_M_1X38 (mini header (50mil pitch))
pins: 1, 2, 3, 4, 5, 6, 7, 8, 9, 10, 11, 12, 13, 14, 15, 16, 17, 18, 19, 20, 21, 22, 23, 24, 25, 26, 27, 28, 29, 30, 31, 32, 33, 34, 35, 36, 37, 38

## HDRMINIS_M_1X39
designator J?, comment HDR1X10  (value not drawn)
CONN, HEADER, Male, pitch: 1.27mm; VALUE: HDRMINI_10
footprint HDRMINIS_M_1X39 (mini header (50mil pitch))
pins: 1, 2, 3, 4, 5, 6, 7, 8, 9, 10, 11, 12, 13, 14, 15, 16, 17, 18, 19, 20, 21, 22, 23, 24, 25, 26, 27, 28, 29, 30, 31, 32, 33, 34, 35, 36, 37, 38, 39

## HDRMINIS_M_1X40
designator J?, comment HDR1X10  (value not drawn)
CONN, HEADER, Male, pitch: 1.27mm; VALUE: HDRMINI_10
footprint HDRMINIS_M_1X40 (mini header (50mil pitch))
pins: 1, 2, 3, 4, 5, 6, 7, 8, 9, 10, 11, 12, 13, 14, 15, 16, 17, 18, 19, 20, 21, 22, 23, 24, 25, 26, 27, 28, 29, 30, 31, 32, 33, 34, 35, 36, 37, 38, 39, 40

## HDRMINIS_M_2X2
designator J?, comment HDRMINI_2X2  (value not drawn)
CONN, HEADER, Male, pitch: 1.27mm, 4POS, SMD; MANF_P#: 20021121-00004D4LF; MANF: FCI; VALUE: HDRMINI_2X2
footprint HDRMINIS_M_2X2 (FCI Minitek127® BTB, HEADER UNSHROUDED, SMT, 4, 1.27mm)
pins: 1, 2, 3, 4

## HDRMINIS_M_2X3
designator J?, comment HDRMINI_2X3  (value not drawn)
CONN, HEADER, Male, pitch: 1.27mm, 6POS, SMD; MANF_P#: MANF_PART#; MANF: MANF; VALUE: HDRMINI_2X3
footprint HDRMINIS_M_2X3 (FCI Minitek127® BTB, HEADER UNSHROUDED, SMT, 6, 1.27mm)
pins: 1, 2, 3, 4, 5, 6

## HDRMINIS_M_2X4
designator J?, comment HDRMINI_2X4
CONN, HEADER, Male, pitch: 1.27mm, 8POS, SMD; MANF_P#: 20021111-00008T4LF; MANF: FCI; VALUE: HDRMINI_2X4; PRICE: 0.5$
footprint HDRMINIS_M_2X4 (FCI Minitek127® BTB, HEADER UNSHROUDED, SMT, 8, 1.27mm)
pins: 1, 2, 3, 4, 5, 6, 7, 8

## HDRMINIS_M_2X5
designator J?, comment HDRMINI_2X5  (value not drawn)
CONN, HEADER, Male, pitch: 1.27mm, 10POS, SMD; VALUE: HDRMINI_2X5
footprint HDRMINIS_M_2X5 (FCI Minitek127® BTB, HEADER UNSHROUDED, SMT, 10, 1.27mm)
pins: 1, 2, 3, 4, 5, 6, 7, 8, 9, 10

## HDRMINIS_M_2X6
designator J?, comment HDRMINI_2X6  (value not drawn)
CONN, HEADER, Male, pitch: 1.27mm, 14POS, SMD; MANF: FCI; MANF_P#: 20021111-00012T4LF; VALUE: HDRMINI_2X6; PRICE: 0.8$
footprint HDRMINIS_M_2X6 (FCI Minitek127® BTB, HEADER UNSHROUDED, SMT, 12, 1.27mm)
pins: 1, 2, 3, 4, 5, 6, 7, 8, 9, 10, 11, 12

## HDRMINIS_M_2X7
designator J?, comment HDRMINI_2X7  (value not drawn)
CONN, HEADER, Male, pitch: 1.27mm, 14POS, SMD; VALUE: HDRMINI_2X7
footprint HDRMINIS_M_2X7 (FCI Minitek127® BTB, HEADER UNSHROUDED, SMT, 14, 1.27mm)
pins: 1, 2, 3, 4, 5, 6, 7, 8, 9, 10, 11, 12, 13, 14

## HDRMINIS_M_2X8
designator J?, comment HDRMINI_2X8  (value not drawn)
CONN, HEADER, Male, pitch: 1.27mm, 16POS, SMD; MANF: FCI; MANF_P#: 20021111-00016T4LF; VALUE: HDRMINI_2X8; PRICE: 0.9$
footprint HDRMINIS_M_2X8 (FCI Minitek127® BTB, HEADER UNSHROUDED, SMT, 16, 1.27mm)
pins: 1, 2, 3, 4, 5, 6, 7, 8, 9, 10, 11, 12, 13, 14, 15, 16

## HDRMINIS_M_2X9
designator J?, comment HDRMINI_2X9  (value not drawn)
CONN, HEADER, Male, pitch: 1.27mm, 18POS, SMD; VALUE: HDRMINI_2X9
footprint HDRMINIS_M_2X9 (FCI Minitek127® BTB, HEADER UNSHROUDED, SMT, 18, 1.27mm)
pins: 1, 2, 3, 4, 5, 6, 7, 8, 9, 10, 11, 12, 13, 14, 15, 16, 17, 18

## HDRMINIS_M_2X10
designator J?, comment HDRMINI_2X10  (value not drawn)
CONN, HEADER, Male, pitch: 1.27mm, 20POS, SMD; MANF: FCI; MANF_P#: 20021121-00020D4LF; VALUE: HDRMINI_2X10; PRICE: 1.1$
footprint HDRMINIS_M_2X10 (FCI Minitek127® BTB, HEADER UNSHROUDED, SMT, 20   Part Number: 2002112100020D4LF)
pins: 1, 2, 3, 4, 5, 6, 7, 8, 9, 10, 11, 12, 13, 14, 15, 16, 17, 18, 19, 20

## HDRMINIS_M_2X11
designator J?, comment HDRMINI_2X10  (value not drawn)
CONN, HEADER, Male, pitch: 1.27mm, 20POS, SMD; MANF: FCI; MANF_P#: 20021121-00022D4LF; VALUE: HDRMINI_2X10; PRICE: 1.1$
footprint HDRMINIS_M_2X10 (FCI Minitek127® BTB, HEADER UNSHROUDED, SMT, 20   Part Number: 2002112100020D4LF)
pins: 1, 2, 3, 4, 5, 6, 7, 8, 9, 10, 11, 12, 13, 14, 15, 16, 17, 18, 19, 20, 21, 22

## HDRMINIS_M_2X12
designator J?, comment HDRMINI_2X12  (value not drawn)
CONN, HEADER, Male, pitch: 1.27mm, 24POS; VALUE: HDRMINI_2X12
footprint HDRMINIS_M_2X12 (FCI Minitek127® BTB, HEADER UNSHROUDED, SMT, 24)
pins: 1, 2, 3, 4, 5, 6, 7, 8, 9, 10, 11, 12, 13, 14, 15, 16, 17, 18, 19, 20, 21, 22, 23, 24

## HDRMINIS_M_2X13
designator J?, comment HDRMINI_2X20  (value not drawn)
CONN, HEADER, Male, pitch: 1.27mm,; VALUE: HDRMINI_2X20
footprint HDRMINIS_M_2X19 (FCI Minitek127® BTB, HEADER UNSHROUDED, SMT)
pins: 1, 2, 3, 4, 5, 6, 7, 8, 9, 10, 11, 12, 13, 14, 15, 16, 17, 18, 19, 20, 21, 22, 23, 24, 25, 26

## HDRMINIS_M_2X14
designator J?, comment HDRMINI_2X20  (value not drawn)
CONN, HEADER, Male, pitch: 1.27mm,; VALUE: HDRMINI_2X20
footprint HDRMINIS_M_2X19 (FCI Minitek127® BTB, HEADER UNSHROUDED, SMT)
pins: 1, 2, 3, 4, 5, 6, 7, 8, 9, 10, 11, 12, 13, 14, 15, 16, 17, 18, 19, 20, 21, 22, 23, 24, 25, 26, 27, 28

## HDRMINIS_M_2X15
designator J?, comment HDRMINI_2X20  (value not drawn)
CONN, HEADER, Male, pitch: 1.27mm,; VALUE: HDRMINI_2X20
footprint HDRMINIS_M_2X19 (FCI Minitek127® BTB, HEADER UNSHROUDED, SMT)
pins: 1, 2, 3, 4, 5, 6, 7, 8, 9, 10, 11, 12, 13, 14, 15, 16, 17, 18, 19, 20, 21, 22, 23, 24, 25, 26, 27, 28, 29, 30

## HDRMINIS_M_2X16
designator J?, comment HDRMINI_2X20  (value not drawn)
CONN, HEADER, Male, pitch: 1.27mm,; VALUE: HDRMINI_2X20
footprint HDRMINIS_M_2X19 (FCI Minitek127® BTB, HEADER UNSHROUDED, SMT)
pins: 1, 2, 3, 4, 5, 6, 7, 8, 9, 10, 11, 12, 13, 14, 15, 16, 17, 18, 19, 20, 21, 22, 23, 24, 25, 26, 27, 28, 29, 30, 31, 32

## HDRMINIS_M_2X17
designator J?, comment HDRMINI_2X20  (value not drawn)
CONN, HEADER, Male, pitch: 1.27mm,; VALUE: HDRMINI_2X20
footprint HDRMINIS_M_2X19 (FCI Minitek127® BTB, HEADER UNSHROUDED, SMT)
pins: 1, 2, 3, 4, 5, 6, 7, 8, 9, 10, 11, 12, 13, 14, 15, 16, 17, 18, 19, 20, 21, 22, 23, 24, 25, 26, 27, 28, 29, 30, 31, 32, 33, 34

## HDRMINIS_M_2X18
designator J?, comment HDRMINI_2X18  (value not drawn)
CONN, HEADER, Male, pitch: 1.27mm, 36POS; VALUE: HDRMINI_2X18
footprint HDRMINIS_M_2X18 (FCI Minitek127® BTB, HEADER UNSHROUDED, SMT)
pins: 1, 2, 3, 4, 5, 6, 7, 8, 9, 10, 11, 12, 13, 14, 15, 16, 17, 18, 19, 20, 21, 22, 23, 24, 25, 26, 27, 28, 29, 30, 31, 32, 33, 34, 35, 36

## HDRMINIS_M_2X19
designator J?, comment HDRMINI_2X20  (value not drawn)
CONN, HEADER, Male, pitch: 1.27mm,; VALUE: HDRMINI_2X20
footprint HDRMINIS_M_2X19 (FCI Minitek127® BTB, HEADER UNSHROUDED, SMT)
pins: 1, 2, 3, 4, 5, 6, 7, 8, 9, 10, 11, 12, 13, 14, 15, 16, 17, 18, 19, 20, 21, 22, 23, 24, 25, 26, 27, 28, 29, 30, 31, 32, 33, 34, 35, 36, 37, 38

## HDRMINIS_M_2X20
designator J?, comment HDRMINI_2X20  (value not drawn)
CONN, HEADER, Male, pitch: 1.27mm, 40POS; VALUE: HDRMINI_2X20
footprint HDRMINIS_M_2X20 (FCI Minitek127® BTB, HEADER UNSHROUDED, SMT)
pins: 1, 2, 3, 4, 5, 6, 7, 8, 9, 10, 11, 12, 13, 14, 15, 16, 17, 18, 19, 20, 21, 22, 23, 24, 25, 26, 27, 28, 29, 30, 31, 32, 33, 34, 35, 36, 37, 38, 39, 40

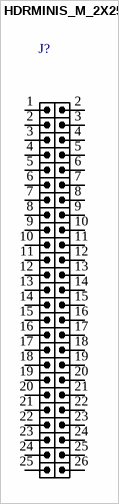
[diagram p3: symbol HDRMINIS_M_2X25]

## HDRMINIS_M_2X25
designator J?, comment HDRMINI_2X20  (value not drawn)
CONN, HEADER, Male, pitch: 1.27mm,; VALUE: HDRMINI_2X20
footprint HDRMINIS_M_2X25 (FCI Minitek127® BTB, HEADER UNSHROUDED, SMT)
pins: 1, 2, 2, 3, 3, 4, 4, 5, 5, 6, 6, 7, 7, 8, 8, 9, 9, 10, 10, 11, 11, 12, 12, 13, 13, 14, 14, 15, 15, 16, 16, 17, 17, 18, 18, 19, 19, 20, 20, 21, 21, 22, 22, 23, 23, 24, 24, 25, 25, 26